# Altium schematic symbol library Jumpers.schlib: 20 symbols
Pins are listed as number, name and electrical type; pins without a type are passive.

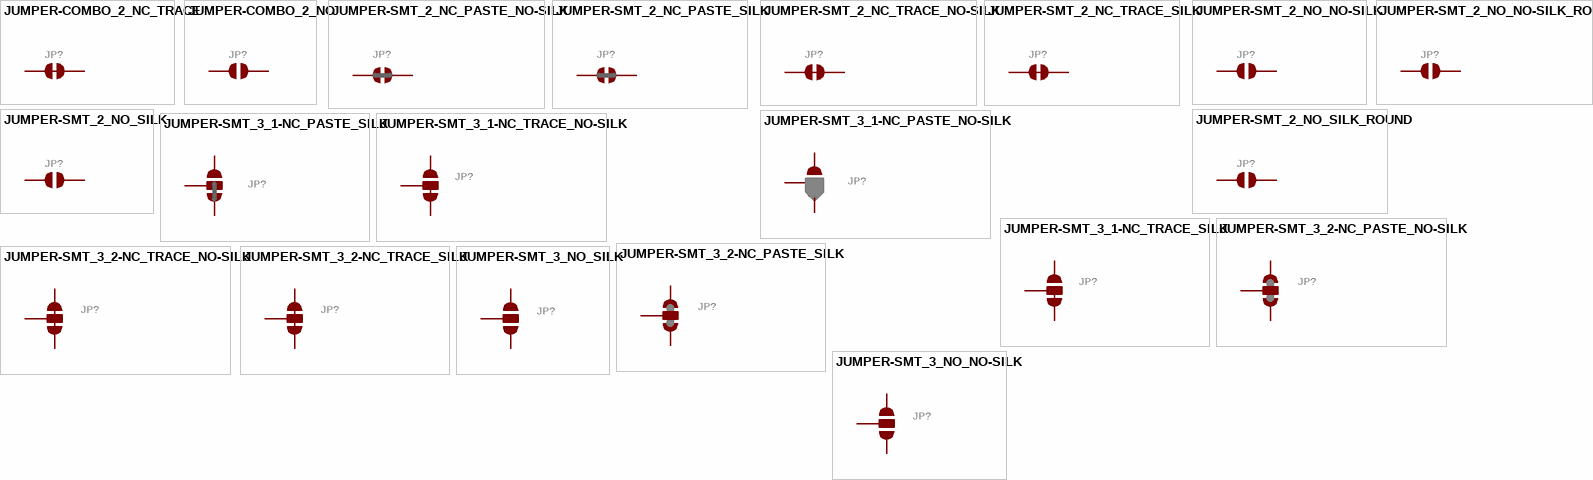
[diagram p0: symbols JUMPER-COMBO_2_NC_TRACE to JUMPER-SMT_3_NO_SILK]

## JUMPER-COMBO_2_NC_TRACE
designator JP?
GateName_1: JP1; SymbolName_1: SMT-JUMPER_2_NC_TRACE-1; DeviceSetName: JUMPER-COMBO_2_NC_TRACE; LibraryName: SparkFun-Jumpers; Package: COMBO-JUMPER_2_NC_TRACE
footprint COMBO-JUMPER_2_NC_TRACE
pins: 1,3 1, 2,4 2

## JUMPER-COMBO_2_NO
designator JP?
GateName_1: JP1; SymbolName_1: SMT-JUMPER_2_NO; DeviceSetName: JUMPER-COMBO_2_NO; LibraryName: SparkFun-Jumpers; Package: COMBO-JUMPER_2_NO
footprint COMBO-JUMPER_2_NO
pins: 1,3 1, 2,4 2

## JUMPER-SMT_2_NC_PASTE_NO-SILK
designator JP?, comment Normally closed solder jumper    This jumper has an aperture in the stencil to allow solder paste to bridge the split in the wire so it's normally closed (NC). Wick off the solder to open the connection. Reapply solder to reclose the connection.  (value not drawn)
GateName_1: G$1; SymbolName_1: SMT-JUMPER_2_NC_PASTE; DeviceName: _NO-SILK; DeviceSetName: JUMPER-SMT_2_NC_PASTE; LibraryName: SparkFun-Jumpers; Package: SMT-JUMPER_2_NC_PASTE_NO-SILK
footprint SMT-JUMPER_2_NC_PASTE_NO-SILK
pins: 1, 2

## JUMPER-SMT_2_NC_PASTE_SILK
designator JP?, comment Normally closed solder jumper    This jumper has an aperture in the stencil to allow solder paste to bridge the split in the wire so it's normally closed (NC). Wick off the solder to open the connection. Reapply solder to reclose the connection.  (value not drawn)
GateName_1: G$1; SymbolName_1: SMT-JUMPER_2_NC_PASTE; DeviceName: _SILK; DeviceSetName: JUMPER-SMT_2_NC_PASTE; LibraryName: SparkFun-Jumpers; Package: SMT-JUMPER_2_NC_PASTE_SILK
footprint SMT-JUMPER_2_NC_PASTE_SILK
pins: 1, 2

## JUMPER-SMT_2_NC_TRACE_NO-SILK
designator JP?, comment Normally closed trace jumper    This jumper has a trace between two pads so it's normally closed (NC). Use a razor knife to open the connection. For best results follow the IPC guidelines for cutting traces: Cutout at least 0.063 mm (0.005 in).  Remove all loose material to clean up the cut area.  Seal the cut with an approved epoxy.       Reapply solder to reclose the connection.  (value not drawn)
GateName_1: G$1; SymbolName_1: SMT-JUMPER_2_NC_TRACE; DeviceName: _NO-SILK; DeviceSetName: JUMPER-SMT_2_NC_TRACE; LibraryName: SparkFun-Jumpers; Package: SMT-JUMPER_2_NC_TRACE_NO-SILK
footprint SMT-JUMPER_2_NC_TRACE_NO-SILK
pins: 1, 2

## JUMPER-SMT_2_NC_TRACE_SILK
designator JP?, comment Normally closed trace jumper    This jumper has a trace between two pads so it's normally closed (NC). Use a razor knife to open the connection. For best results follow the IPC guidelines for cutting traces: Cutout at least 0.063 mm (0.005 in).  Remove all loose material to clean up the cut area.  Seal the cut with an approved epoxy.       Reapply solder to reclose the connection.  (value not drawn)
GateName_1: G$1; SymbolName_1: SMT-JUMPER_2_NC_TRACE; DeviceName: _SILK; DeviceSetName: JUMPER-SMT_2_NC_TRACE; LibraryName: SparkFun-Jumpers; Package: SMT-JUMPER_2_NC_TRACE_SILK
footprint SMT-JUMPER_2_NC_TRACE_SILK
pins: 1, 2

## JUMPER-SMT_2_NO_NO-SILK
designator JP?, comment Normally open jumper    This jumper has two pads in close proximity to each other. Apply solder to close the connection.   Round pads are easier to solder for beginners, but are a lot larger.   SparkFun Product that uses the round pads:  SparkFun EL Sequencer  (value not drawn)
GateName_1: G$1; SymbolName_1: SMT-JUMPER_2_NO; DeviceName: _NO-SILK; DeviceSetName: JUMPER-SMT_2_NO; LibraryName: SparkFun-Jumpers; Package: SMT-JUMPER_2_NO_NO-SILK
footprint SMT-JUMPER_2_NO_NO-SILK
pins: 1, 2

## JUMPER-SMT_2_NO_NO-SILK_ROUND
designator JP?, comment Normally open jumper    This jumper has two pads in close proximity to each other. Apply solder to close the connection.   Round pads are easier to solder for beginners, but are a lot larger.   SparkFun Product that uses the round pads:  SparkFun EL Sequencer  (value not drawn)
GateName_1: G$1; SymbolName_1: SMT-JUMPER_2_NO; DeviceName: _NO-SILK_ROUND; DeviceSetName: JUMPER-SMT_2_NO; LibraryName: SparkFun-Jumpers; Package: SMT-JUMPER_2_NO_NO-SILK_ROUND
footprint SMT-JUMPER_2_NO_NO-SILK_ROUND
pins: 1, 2

## JUMPER-SMT_2_NO_SILK
designator JP?, comment Normally open jumper    This jumper has two pads in close proximity to each other. Apply solder to close the connection.   Round pads are easier to solder for beginners, but are a lot larger.   SparkFun Product that uses the round pads:  SparkFun EL Sequencer  (value not drawn)
GateName_1: G$1; SymbolName_1: SMT-JUMPER_2_NO; DeviceName: _SILK; DeviceSetName: JUMPER-SMT_2_NO; LibraryName: SparkFun-Jumpers; Package: SMT-JUMPER_2_NO_SILK
footprint SMT-JUMPER_2_NO_SILK
pins: 1, 2

## JUMPER-SMT_2_NO_SILK_ROUND
designator JP?, comment Normally open jumper    This jumper has two pads in close proximity to each other. Apply solder to close the connection.   Round pads are easier to solder for beginners, but are a lot larger.   SparkFun Product that uses the round pads:  SparkFun EL Sequencer  (value not drawn)
GateName_1: G$1; SymbolName_1: SMT-JUMPER_2_NO; DeviceName: _SILK_ROUND; DeviceSetName: JUMPER-SMT_2_NO; LibraryName: SparkFun-Jumpers; Package: SMT-JUMPER_2_NO_SILK_ROUND
footprint SMT-JUMPER_2_NO_SILK_ROUND
pins: 1, 2

## JUMPER-SMT_3_1-NC_PASTE_NO-SILK
designator JP?, comment Normally closed solder jumper (1 of 2 connections)    This jumper has an aperture in the stencil to allow solder paste to bridge one of the two connections. One connection is normally closed (NC), while the other is normally open (NO). Wick off the solder to open the connection. Reapply solder to reclose the connection. Apply solder to the other side instead to change the current path.  (value not drawn)
GateName_1: G$1; SymbolName_1: SMT-JUMPER_3_1-NC_PASTE; DeviceName: _NO-SILK; DeviceSetName: JUMPER-SMT_3_1-NC_PASTE; LibraryName: SparkFun-Jumpers; Package: SMT-JUMPER_3_1-NC_PASTE_NO-SILK
footprint SMT-JUMPER_3_1-NC_PASTE_NO-SILK
pins: 1, 2, 3

## JUMPER-SMT_3_1-NC_PASTE_SILK
designator JP?, comment Normally closed solder jumper (1 of 2 connections)    This jumper has an aperture in the stencil to allow solder paste to bridge one of the two connections. One connection is normally closed (NC), while the other is normally open (NO). Wick off the solder to open the connection. Reapply solder to reclose the connection. Apply solder to the other side instead to change the current path.  (value not drawn)
GateName_1: G$1; SymbolName_1: SMT-JUMPER_3_1-NC_PASTE; DeviceName: _SILK; DeviceSetName: JUMPER-SMT_3_1-NC_PASTE; LibraryName: SparkFun-Jumpers; Package: SMT-JUMPER_3_1-NC_PASTE_SILK
footprint SMT-JUMPER_3_1-NC_PASTE_SILK
pins: 1, 2, 3

## JUMPER-SMT_3_1-NC_TRACE_NO-SILK
designator JP?
GateName_1: G$1; SymbolName_1: SMT-JUMPER_3_1-NC_TRACE; DeviceName: _NO-SILK; DeviceSetName: JUMPER-SMT_3_1-NC_TRACE; LibraryName: SparkFun-Jumpers; Package: SMT-JUMPER_3_1-NC_TRACE_NO-SILK
footprint SMT-JUMPER_3_1-NC_TRACE_NO-SILK
pins: 1, 2, 3

## JUMPER-SMT_3_1-NC_TRACE_SILK
designator JP?, comment Normally closed trace jumper (1 of 2 connections)    This jumper has a trace between two pads so it's normally closed (NC). The other connection is normally open (NO). Use a razor knife to open the connection. For best results follow the IPC guidelines for cutting traces: Cutout at least 0.063 mm (0.005 in).  Remove all loose material to clean up the cut area.  Seal the cut with an approved epoxy.       Reapply solder to reclose the connection, or to close the NO connection.  (value not drawn)
GateName_1: G$1; SymbolName_1: SMT-JUMPER_3_1-NC_TRACE; DeviceName: _SILK; DeviceSetName: JUMPER-SMT_3_1-NC_TRACE; LibraryName: SparkFun-Jumpers; Package: SMT-JUMPER_3_1-NC_TRACE_SILK
footprint SMT-JUMPER_3_1-NC_TRACE_SILK
pins: 1, 2, 3

## JUMPER-SMT_3_2-NC_PASTE_NO-SILK
designator JP?, comment Normally closed solder jumper (2 of 2 connections)    This jumper has an aperture in the stencil to allow solder paste to bridge both connections. Both connections are normally closed (NC). Wick off the solder to open the connection(s). Reapply solder to reclose the connection(s).  (value not drawn)
GateName_1: G$1; SymbolName_1: SMT-JUMPER_3_2-NC_PASTE; DeviceName: _NO-SILK; DeviceSetName: JUMPER-SMT_3_2-NC_PASTE; LibraryName: SparkFun-Jumpers; Package: SMT-JUMPER_3_2-NC_PASTE_NO-SILK
footprint SMT-JUMPER_3_2-NC_PASTE_NO-SILK
pins: 1, 2, 3

## JUMPER-SMT_3_2-NC_PASTE_SILK
designator JP?, comment Normally closed solder jumper (2 of 2 connections)    This jumper has an aperture in the stencil to allow solder paste to bridge both connections. Both connections are normally closed (NC). Wick off the solder to open the connection(s). Reapply solder to reclose the connection(s).  (value not drawn)
GateName_1: G$1; SymbolName_1: SMT-JUMPER_3_2-NC_PASTE; DeviceName: _SILK; DeviceSetName: JUMPER-SMT_3_2-NC_PASTE; LibraryName: SparkFun-Jumpers; Package: SMT-JUMPER_3_2-NC_PASTE_SILK
footprint SMT-JUMPER_3_2-NC_PASTE_SILK
pins: 1, 2, 3

## JUMPER-SMT_3_2-NC_TRACE_NO-SILK
designator JP?, comment Normally closed trace jumper (2 of 2 connections)    This jumper has a trace between all three pads so they are normally closed (NC). Use a razor knife to open the connection(s). For best results follow the IPC guidelines for cutting traces: Cutout at least 0.063 mm (0.005 in).  Remove all loose material to clean up the cut area.  Seal the cut with an approved epoxy.       Reapply solder to reclose the connection(s).  (value not drawn)
GateName_1: G$1; SymbolName_1: SMT-JUMPER_3_2-NC_TRACE; DeviceName: _NO-SILK; DeviceSetName: JUMPER-SMT_3_2-NC_TRACE; LibraryName: SparkFun-Jumpers; Package: SMT-JUMPER_3_2-NC_TRACE_NO-SILK
footprint SMT-JUMPER_3_2-NC_TRACE_NO-SILK
pins: 1, 2, 3

## JUMPER-SMT_3_2-NC_TRACE_SILK
designator JP?, comment Normally closed trace jumper (2 of 2 connections)    This jumper has a trace between all three pads so they are normally closed (NC). Use a razor knife to open the connection(s). For best results follow the IPC guidelines for cutting traces: Cutout at least 0.063 mm (0.005 in).  Remove all loose material to clean up the cut area.  Seal the cut with an approved epoxy.       Reapply solder to reclose the connection(s).  (value not drawn)
GateName_1: G$1; SymbolName_1: SMT-JUMPER_3_2-NC_TRACE; DeviceName: _SILK; DeviceSetName: JUMPER-SMT_3_2-NC_TRACE; LibraryName: SparkFun-Jumpers; Package: SMT-JUMPER_3_2-NC_TRACE_SILK
footprint SMT-JUMPER_3_2-NC_TRACE_SILK
pins: 1, 2, 3

## JUMPER-SMT_3_NO_NO-SILK
designator JP?, comment Normally open jumper    This jumper has three pads in close proximity to each other. Apply solder to close the connection(s).  (value not drawn)
GateName_1: G$1; SymbolName_1: SMT-JUMPER_3_NO; DeviceName: _NO-SILK; DeviceSetName: JUMPER-SMT_3_NO; LibraryName: SparkFun-Jumpers; Package: SMT-JUMPER_3_NO_NO-SILK
footprint SMT-JUMPER_3_NO_NO-SILK
pins: 1, 2, 3

## JUMPER-SMT_3_NO_SILK
designator JP?, comment Normally open jumper    This jumper has three pads in close proximity to each other. Apply solder to close the connection(s).  (value not drawn)
GateName_1: G$1; SymbolName_1: SMT-JUMPER_3_NO; DeviceName: _SILK; DeviceSetName: JUMPER-SMT_3_NO; LibraryName: SparkFun-Jumpers; Package: SMT-JUMPER_3_NO_SILK
footprint SMT-JUMPER_3_NO_SILK
pins: 1, 2, 3